# Altium schematic symbol library DZ.Schlib: 1 symbol
Pins are listed as number, name and electrical type; pins without a type are passive.

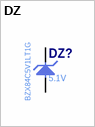
[diagram p0: symbol DZ]

## DZ
designator DZ?  Manufacturer Part Number: BZX84C5V1LT1G  Zener Voltage: 5.1V  (hidden comment: DZ)
Zener
pins: 1 C, 2 A
1 alternate drawing of the same symbol